# Altium integrated library 20535-040E-02.IntLib: 1 symbol
Pins are listed as number, name and electrical type; pins without a type are passive.

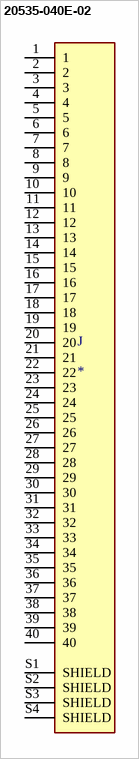
[diagram p0: symbol 20535-040E-02]

## 20535-040E-02
designator J
0.5 mm pitch, Horizontal mating, Auto-Locking shielded, High-speed for high-temp; MP: 20535-040E-02; MF: I-PEX; Price: None; SnapEDA_Link: https://www.snapeda.com/parts/20535-040E-02/I-PEX/view-part/3220491/?ref=snap; Availability: Unavailable; Value: *; Package: None
footprint IPEX_20535-040E-02
pins: 1, 2, 3, 4, 5, 6, 7, 8, 9, 10, 11, 12, 13, 14, 15, 16, 17, 18, 19, 20, 21, 22, 23, 24, 25, 26, 27, 28, 29, 30, 31, 32, 33, 34, 35, 36, 37, 38, 39, 40, S1 SHIELD, S2 SHIELD, S3 SHIELD, S4 SHIELD